# EAGLE library part HD-E106 (library display-hp)
LED DISPLAY + - 1/2 character, decimal point right
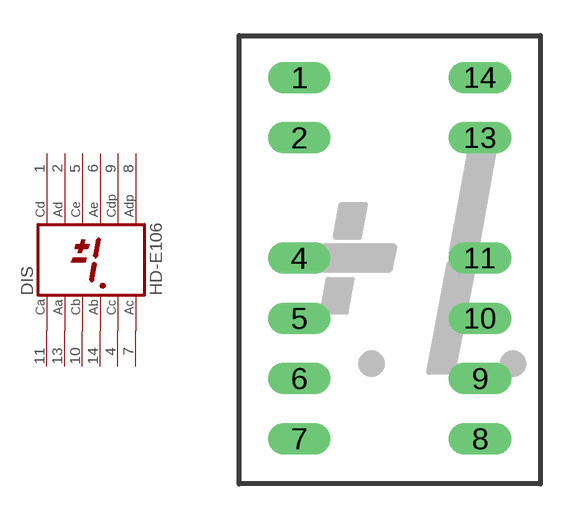
[diagram p20: symbol with the pads of HDSP-L; footprint HDSP-L]

Designator prefix DIS

## HD-E106  [HDSP-L]
1  CD  pas
2  AD  pas
4  CC  pas
5  CE  pas
6  AE  pas
7  AC  pas
8  ADP  pas
9  CDP  pas
10  CB  pas
11  CA  pas
13  AA  pas
14  AB  pas

## Footprint HDSP-L (pad centres in mm)
LED DISPLAY 12-mm + - 1/2 character, 2 decimal points
drill 0.813 long: 1 -3.81,7.62; 2 -3.81,5.08; 4 -3.81,0; 5 -3.81,-2.54; 6 -3.81,-5.08; 7 -3.81,-7.62; 8 3.81,-7.62; 9 3.81,-5.08; 10 3.81,-2.54; 11 3.81,0; 13 3.81,5.08; 14 3.81,7.62